# Altium footprint library SnapEDApcb.PcbLib: 1 footprints
Each footprint in its own frame and in the unit in brackets; x right, y up, seen from the top. Pads: shape width x height; smd on the part's side, far side on the other; paste and mask are expansions set on the pad; w line width, h text height; cw(c..) or ccw(c..) is an arc to the next point about the centre after c.
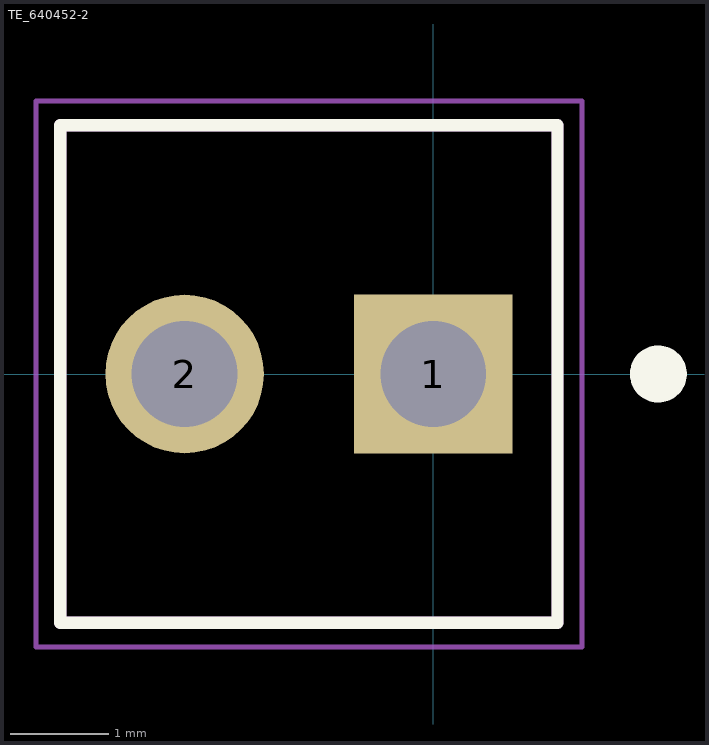
[diagram p0: the footprint, top view; thin cyan lines are the x and y axes]

## TE_640452-2 [mm]
pads (2):
  rect 1.62x1.62 hole 1.08: 1(0,0)
  round 1.62 hole 1.08: 2(-2.54,0)
Top Overlay:
  circle w0.3: c2.3,0 r0.141
  lines w0.127: -3.81,-2.54 -3.81,2.54 1.27,2.54 1.27,-2.54 -3.81,-2.54
Mechanical 13:
  lines w0.127: -3.81,-2.54 -3.81,2.54 1.27,2.54 1.27,-2.54 -3.81,-2.54
Mechanical 15:
  lines w0.05: -4.06,-2.79 -4.06,2.79 1.52,2.79 1.52,-2.79 -4.06,-2.79
3D body "640452-2.stp": height 7.49, standoff -6.1, extent -3.81,-2.54 1.27,2.54